# EAGLE library part TPS62177 (library texas)
Step-Down Converter 28V, 0.5A with Sleep Mode
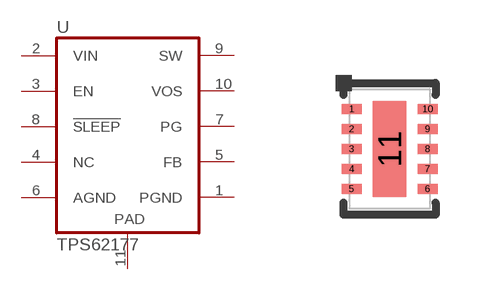
[diagram p103: symbol with the pads of WSON-10; footprint WSON-10]

Designator prefix U

## TPS62177  [WSON-10]
1  PGND  pwr
2  VIN  in
3  EN  in
4  NC  in
5  FB  in
6  AGND  pwr
7  PG  in
8  !SLEEP!  in
9  SW  out
10  VOS  in
11  PWRPAD  pwr

## Footprint WSON-10 (pad centres in mm)
10WSON (3x2)
smd 0.5 x 0.25: 1 -0.95,1; 2 -0.95,0.5; 3 -0.95,0; 4 -0.95,-0.5; 5 -0.95,-1; 6 0.95,-1; 7 0.95,-0.5; 8 0.95,0; 9 0.95,0.5; 10 0.95,1
smd 0.84 x 2.4: 11 0,0